# EAGLE library part TWIG-4P-2.0-SMD-FEMALE-REINFORCE (library ChaiNEO)
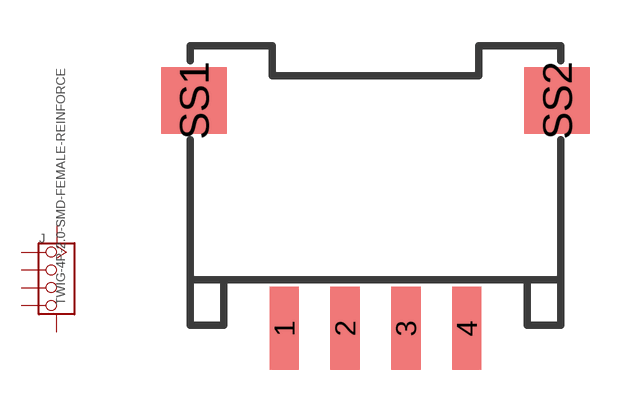
[diagram p0: symbol with the pads of 4P-SMD-2.0-90D; footprint 4P-SMD-2.0-90D]

Designator prefix J

## TWIG-4P-2.0-SMD-FEMALE-REINFORCE90D  [4P-SMD-2.0-90D]
1  1
2  2
3  3
4  4
SS1  SS1
SS2  SS2

## Footprint 4P-SMD-2.0-90D (pad centres in mm)
smd 0.965 x 2.74: 1 -3,-0.1; 2 -1,-0.1; 3 1,-0.1; 4 3,-0.1
smd 2.159 x 2.184: SS1 -5.974,7.4; SS2 5.974,7.4